# Altium footprint library CAN_optical_PcbLib.PcbLib: 20 footprints (part 1 of 2)
Each footprint in its own frame and in the unit in brackets; x right, y up, seen from the top. Pads: shape width x height; smd on the part's side, far side on the other; paste and mask are expansions set on the pad; w line width, h text height; cw(c..) or ccw(c..) is an arc to the next point about the centre after c.
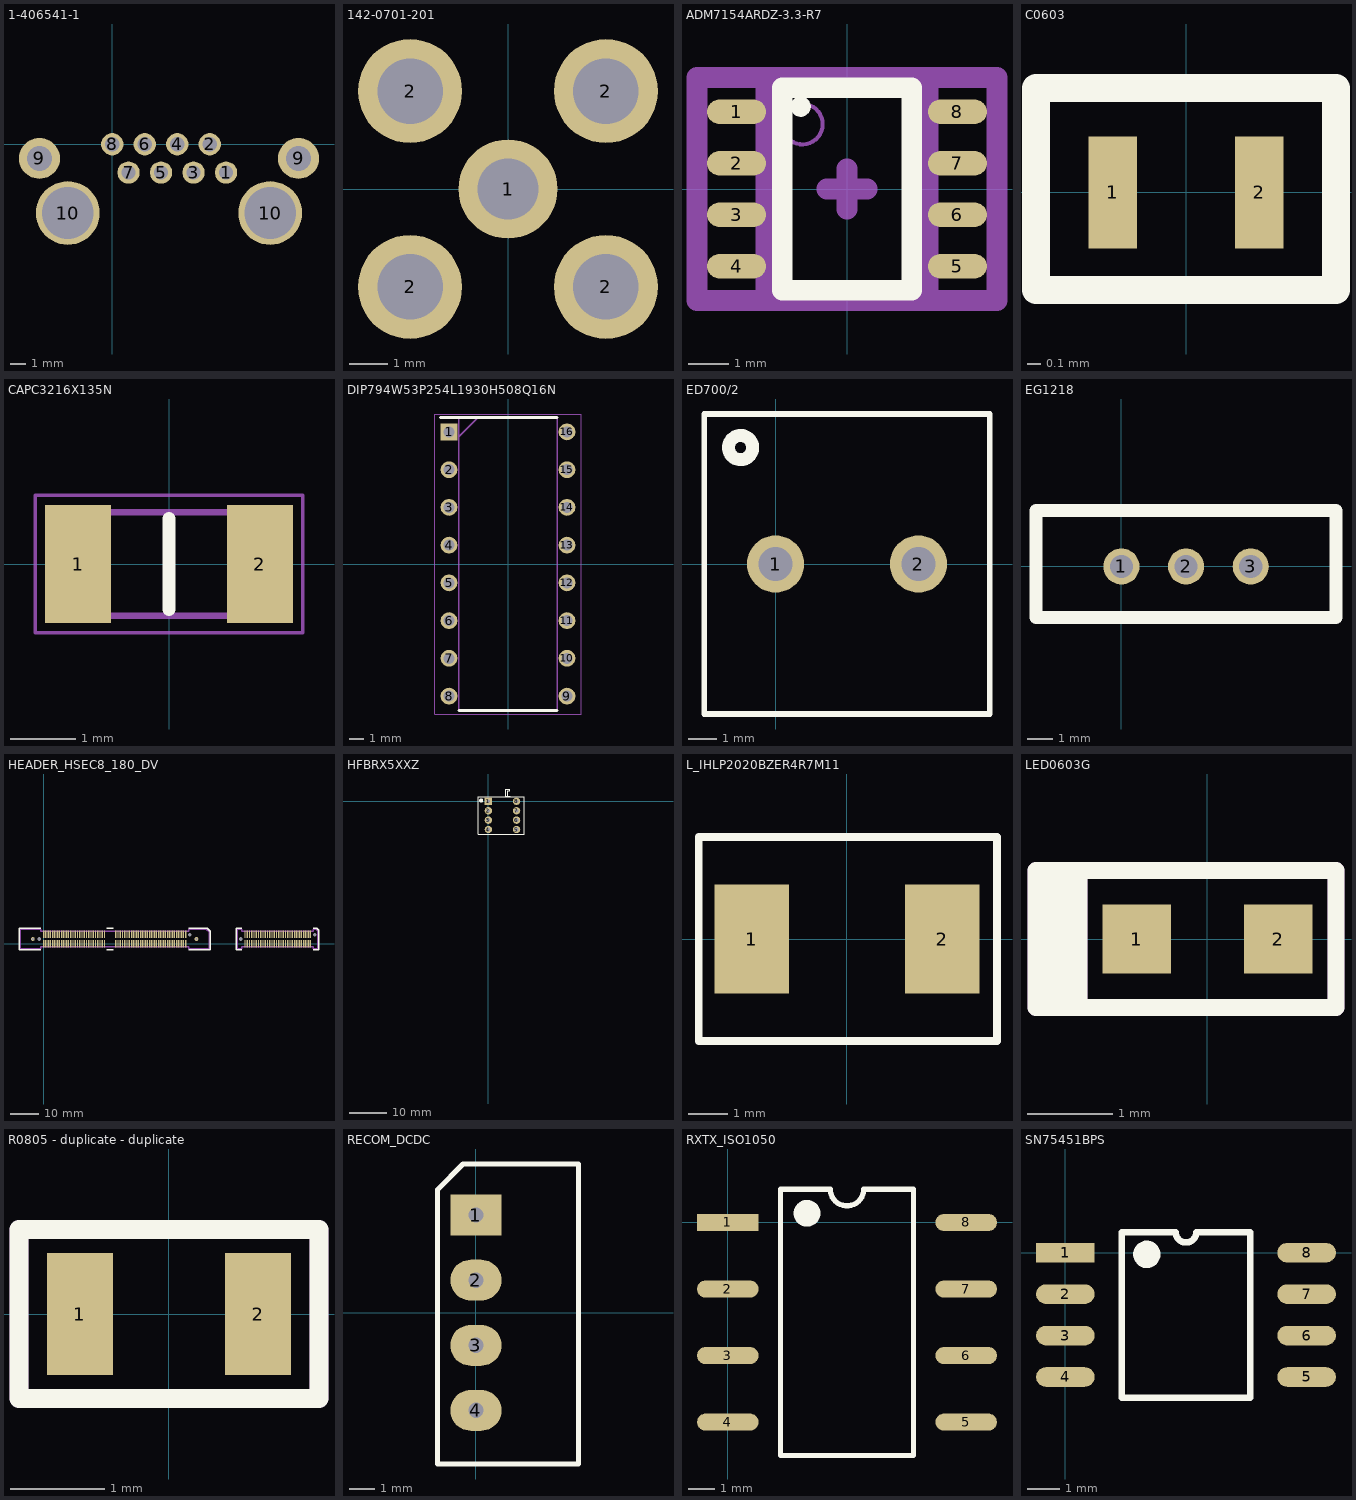
[diagram p0: the footprints below, top view; thin cyan lines are the x and y axes]

## 1-406541-1 [mm] "Jack Modular Connector 8p8c (RJ45, Ethernet) 90° Angle (Right) Shielded, EMI Finger Cat5"
height 13.97
pads (12):
  round 1.4 hole 0.89: 1(7.14,-1.78) 2(6.12,0) 3(5.1,-1.78) 4(4.08,0) 5(3.06,-1.78) 6(2.04,0) 7(1.02,-1.78) 8(0,0)
  round 2.57 hole 1.57: 9(-4.57,-0.89) 9(11.69,-0.89)
  round 4 hole 3.25: 10(-2.79,-4.32) 10(9.91,-4.32)

## 142-0701-201 [mm]
pads (5):
  round 2.57 hole 1.57: 1(0,0)
  round 2.7 hole 1.7: 2(-2.54,-2.54) 2(-2.54,2.54) 2(2.54,-2.54) 2(2.54,2.54)

## ADM7154ARDZ-3.3-R7 [mm]
pads (8):
  oval 1.45x0.6 smd: 1(-2.725,1.905) 2(-2.725,0.635) 3(-2.725,-0.635) 4(-2.725,-1.905) 5(2.725,-1.905) 6(2.725,-0.635) 7(2.725,0.635) 8(2.725,1.905)
Top Overlay:
  circle w0.25: c-1.143,2.032 r0.125
  lines w0.508: -1.6,-2.5 1.6,-2.5 1.6,2.5 -1.6,2.5 -1.6,-2.5
Mechanical 13:
  circle w0.1: c-1.1,1.6 r0.5
  lines w0.508: -2,-2.5 2,-2.5 2,2.5 -2,2.5 -2,-2.5
Mechanical 15:
  lines w0.508: -0.5,0 0.5,0 ; 0,-0.5 0,0.5 ; -3.7,-2.75 3.7,-2.75 3.7,2.75 -3.7,2.75 -3.7,-2.75
3D body: height 0.8, standoff 0.1, extent -2,-2.5 2,2.5

## C0603 [mm]
pads (2):
  rect 0.35x0.8 smd: 1(-0.525,0) 2(0.525,0)
Top Overlay:
  lines w0.2: -1.075,-0.7 1.075,-0.7 1.075,0.75 -1.075,0.75 -1.075,-0.7

## CAPC3216X135N [mm]
pads (2):
  rect 1.02x1.82 smd: 1(-1.4,0) 2(1.4,0)
Top Overlay:
  lines w0.2: 0,-0.7 0,0.7
Mechanical 13:
  lines w0.1: -1.6,-0.8 1.6,-0.8 1.6,0.8 -1.6,0.8 -1.6,-0.8
Mechanical 15:
  lines w0.05: -2.06,-1.06 2.06,-1.06 2.06,1.06 -2.06,1.06 -2.06,-1.06
3D body "C1206C104J5JACTU.stp": height 1.35, standoff 0, extent -1.6,-0.8 1.6,0.8

## DIP794W53P254L1930H508Q16N [mm]
pads (16):
  rect 1.13x1.13 hole 0.73: 1(-3.97,8.89)
  round 1.13 hole 0.73: 2(-3.97,6.35) 3(-3.97,3.81) 4(-3.97,1.27) 5(-3.97,-1.27) 6(-3.97,-3.81) 7(-3.97,-6.35) 8(-3.97,-8.89) 9(3.97,-8.89) 10(3.97,-6.35) 11(3.97,-3.81) 12(3.97,-1.27) 13(3.97,1.27) 14(3.97,3.81) 15(3.97,6.35) 16(3.97,8.89)
Top Overlay:
  lines w0.2: -4.535,9.845 3.3,9.845 ; -3.3,-9.845 3.3,-9.845
Mechanical 13:
  lines w0.1: -3.3,8.575 -2.03,9.845 ; -3.3,-9.845 3.3,-9.845 3.3,9.845 -3.3,9.845 -3.3,-9.845
Mechanical 15:
  lines w0.05: -4.945,-10.095 4.945,-10.095 4.945,10.095 -4.945,10.095 -4.945,-10.095
3D body "CD40109BE.stp": height 5.08, standoff -3.5, extent -4.102,-9.653 4.102,9.653

## ED700/2 [mm]
pads (2):
  round 2 hole 1.2: 1(0,0) 2(5,0)
Top Overlay:
  circle w0.454: c-1.225,4.075 r0.424
  lines w0.2: -2.5,-5.25 7.5,-5.25 7.5,5.25 -2.5,5.25 -2.5,-5.25

## EG1218 [mm] "SWITCH SLIDE SPDT 200MA 30V"
pads (3):
  round 1.4 hole 0.9: 1(0,0) 2(2.5,0) 3(5,0)
Top Overlay:
  lines w0.508: -3.302,-1.968 -3.302,2.159 8.298,2.159 8.298,-1.968 -3.302,-1.968

## HEADER_HSEC8_180_DV [mm]
pads (186):
  rect 0.5x2.724 smd mask+0.076: 1(0,0) 2(0,3.4) 3(0.8,0) 4(0.8,3.4) 5(1.6,0) 6(1.6,3.4) 7(2.4,0) 8(2.4,3.4) 9(3.2,0) 10(3.2,3.4) 11(4,0) 12(4,3.4) 13(4.8,0) 14(4.8,3.4) 15(5.6,0) 16(5.6,3.4) 17(6.4,0) 18(6.4,3.4) 19(7.2,0) 20(7.2,3.4) 21(8,0) 22(8,3.4) 23(8.8,0) 24(8.8,3.4) 25(9.6,0) 26(9.6,3.4) 27(10.4,0) 28(10.4,3.4) 29(11.2,0) 30(11.2,3.4) 31(12,0) 32(12,3.4) 33(12.8,0) 34(12.8,3.4) 35(13.6,0) 36(13.6,3.4) 37(14.4,0) 38(14.4,3.4) 39(15.2,0) 40(15.2,3.4) 41(16,0) 42(16,3.4) 43(16.8,0) 44(16.8,3.4) 45(17.6,0) 46(17.6,3.4) 47(18.4,0) 48(18.4,3.4) 49(19.2,0) 50(19.2,3.4) 51(20,0) 52(20,3.4) 53(20.8,0) 54(20.8,3.4) 55(21.6,0) 56(21.6,3.4) 57(25.6,0) 58(25.6,3.4) 59(26.4,0) 60(26.4,3.4) 61(27.2,0) 62(27.2,3.4) 63(28,0) 64(28,3.4) 65(28.8,0) 66(28.8,3.4) 67(29.6,0) 68(29.6,3.4) 69(30.4,0) 70(30.4,3.4) 71(31.2,0) 72(31.2,3.4) 73(32,0) 74(32,3.4) 75(32.8,0) 76(32.8,3.4) 77(33.6,0) 78(33.6,3.4) 79(34.4,0) 80(34.4,3.4) 81(35.2,0) 82(35.2,3.4) 83(36,0) 84(36,3.4) 85(36.8,0) 86(36.8,3.4) 87(37.6,0) 88(37.6,3.4) 89(38.4,0) 90(38.4,3.4) 91(39.2,0) 92(39.2,3.4) 93(40,0) 94(40,3.4) 95(40.8,0) 96(40.8,3.4) 97(41.6,0) 98(41.6,3.4) 99(42.4,0) 100(42.4,3.4) 101(43.2,0) 102(43.2,3.4) 103(44,0) 104(44,3.4) 105(44.8,0) 106(44.8,3.4) 107(45.6,0) 108(45.6,3.4) 109(46.4,0) 110(46.4,3.4) 111(47.2,0) 112(47.2,3.4) 113(48,0) 114(48,3.4) 115(48.8,0) 116(48.8,3.4) 117(49.6,0) 118(49.6,3.4) 119(50.4,0) 120(50.4,3.4) 121(71.468,0) 122(71.468,3.4) 123(72.268,0) 124(72.268,3.4) 125(73.068,0) 126(73.068,3.4) 127(73.868,0) 128(73.868,3.4) 129(74.668,0) 130(74.668,3.4) 131(75.468,0) 132(75.468,3.4) 133(76.268,0) 134(76.268,3.4) 135(77.068,0) 136(77.068,3.4) 137(77.868,0) 138(77.868,3.4) 139(78.668,0) 140(78.668,3.4) 141(79.468,0) 142(79.468,3.4) 143(80.268,0) 144(80.268,3.4) 145(81.068,0) 146(81.068,3.4) 147(81.868,0) 148(81.868,3.4) 149(82.668,0) 150(82.668,3.4) 151(83.468,0) 152(83.468,3.4) 153(84.268,0) 154(84.268,3.4) 155(85.068,0) 156(85.068,3.4) 157(85.868,0) 158(85.868,3.4) 159(86.668,0) 160(86.668,3.4) 161(87.468,0) 162(87.468,3.4) 163(88.268,0) 164(88.268,3.4) 165(89.068,0) 166(89.068,3.4) 167(89.868,0) 168(89.868,3.4) 169(90.668,0) 170(90.668,3.4) 171(91.468,0) 172(91.468,3.4) 173(92.268,0) 174(92.268,3.4) 175(93.068,0) 176(93.068,3.4) 177(93.868,0) 178(93.868,3.4) 179(94.668,0) 180(94.668,3.4)
  round 0.025 hole 1.27 unplated mask+0.876: 181(-1.5,1.7) 182(51.9,3.2) 183(69.968,1.7) 184(96.168,3.2)
  round 1.348 hole 0.84: 185(-3.85,1.7) 186(54.25,1.7)
Top Overlay:
  lines w0.508: -1.1,-2.181 -8.756,-2.181 -8.756,5.581 -1.1,5.581 ; 22.481,-2.181 24.719,-2.181 ; 22.481,5.581 24.719,5.581 ; 51.5,-2.181 59.156,-2.181 59.156,4.438 58.013,5.581 51.5,5.581 ; 70.368,-2.181 68.387,-2.181 68.387,5.581 70.368,5.581 ; 95.733,-2.181 97.749,-2.181 97.749,4.819 96.987,5.581 95.758,5.581
Mechanical 1:
  lines w0.508: -8.375,-1.8 -1.1,-1.8 -1.1,-1.1 51.5,-1.1 51.5,-1.8 58.775,-1.8 58.775,4.225 57.8,5.2 51.5,5.2 51.5,4.5 -1.1,4.5 -1.1,5.2 -8.375,5.2 -8.375,-1.8 ; 68.768,-1.768 68.8,-1.8 70.368,-1.8 70.368,-1.1 95.768,-1.1 95.768,-1.8 97.368,-1.8 97.368,4.632 96.8,5.2 95.768,5.2 95.768,4.5 70.368,4.5 70.368,5.2 68.768,5.2 68.768,-1.768

## HFBRX5XXZ [mm]
pads (8):
  rect 2x2 hole 1.02: 1(0,0)
  round 2 hole 1.02: 2(0,-2.54) 3(0,-5.08) 4(0,-7.62) 5(7.62,-7.62) 6(7.625,-5.075) 7(7.625,-2.55) 8(7.62,0)
Top Overlay:
  circle w0.54: c-1.95,0.225 r0.3
  lines w0.2: 2.725,1.27 9.675,1.27 9.675,-2.46 9.675,-3.86 9.675,-6.211 9.675,-7.164 9.675,-8.89 -2.75,-8.89 -2.75,-5.35 -2.75,-2.27 -2.75,1.27 3.175,1.27 ; 5.175,1.325 5.175,2.775 5.15,2.8 5.8,2.8 5.825,2.825 5.825,3.325 4.675,3.325 4.675,2.275 4.675,1.27 cw(c5.31,-38.23) 5.945,1.27

## L_IHLP2020BZER4R7M11 [mm]
pads (2):
  rect 1.9x2.79 smd: 1(-2.425,0) 2(2.426,0)
Top Overlay:
  lines w0.2: -3.775,-2.6 -3.775,0.655 -3.775,2.6 3.825,2.6 3.825,-2.6 -3.775,-2.6

## LED0603G [mm]
pads (2):
  rect 0.8x0.8 smd: 1(-0.825,0) 2(0.825,0)
Top Overlay:
  rectangle: -2,-0.8 -1.4,0.8
  lines w0.2: -2,-0.8 1.5,-0.8 1.5,-0.2 1.5,0.6 1.5,0.8 -2,0.8 -2,-0.8
Mechanical 29:
  rectangle: -2,-0.8 -1.4,0.8
  lines w0.2: -2,-0.8 -2,0.8 1.5,0.8 1.5,0.6 1.5,-0.2 1.5,-0.8 -2,-0.8
  text "'.Designator'" at -1.1,-0.4 h0.7
3D body "User Library-SMD LED 0603.step": height 0.4, standoff 0.01, extent -0.8,-0.4 0.8,0.4

## R0805 - duplicate - duplicate [mm]
pads (2):
  rect 0.7x1.3 smd: 1(-0.95,0) 2(0.95,0)
Top Overlay:
  lines w0.2: -1.6,-0.9 -1.6,-0.25 -1.6,0.9 1.6,0.9 1.6,-0.9 0.637,-0.9 -1.6,-0.9
Mechanical 29:
  lines w0.2: -1.6,-0.9 0.637,-0.9 1.6,-0.9 1.6,0.9 -1.6,0.9 -1.6,-0.25 -1.6,-0.9
  text "'.Designator'" at -1.3,-0.4 h0.7
3D body: height 0.25, standoff 0, extent -0.2,-0.2 -0.2,-0.2
3D body: height 0.25, standoff 0, extent -0.7,0.9 -0.7,0.9
3D body: height 0.25, standoff 0, extent -1,1.2 -1,1.2
3D body "User Library-CR2012-0805.step": height 0.61, standoff 0.01, extent -1,-0.625 1,0.625

## RECOM_DCDC [mm]
pads (4):
  rect 2x1.6 hole 0.6: 1(0,3.81)
  oval 2x1.6 hole 0.6: 2(0,1.27) 3(0,-1.27) 4(0,-3.81)
Top Overlay:
  lines w0.2: -0.4,5.8 -0.5,5.8 ; -0.5,5.8 4,5.8 4,-5.9 2.315,-5.9 0.185,-5.9 -0.779,-5.9 -1.5,-5.9 -1.5,4.8 -0.5,5.8

## RXTX_ISO1050 [mm]
pads (8):
  rect 2.35x0.65 smd: 1(0,0)
  oval 2.35x0.65 smd: 2(0,-2.54) 3(0,-5.08) 4(0,-7.62) 5(9.1,-7.62) 6(9.1,-5.08) 7(9.1,-2.54) 8(9.1,0)
Top Overlay:
  circle w0.5: c3.025,0.35 r0.261
  lines w0.2: 2.01,-8.89 7.09,-8.89 7.09,1.27 5.185,1.27 cw(c4.55,1.27) 3.915,1.27 2.01,1.27 2.01,-8.89

## SN75451BPS [mm]
pads (8):
  rect 1.8x0.6 smd: 1(0,0)
  oval 1.8x0.6 smd: 2(0,-1.27) 3(0,-2.54) 4(0,-3.81) 5(7.4,-3.81) 6(7.4,-2.54) 7(7.4,-1.27) 8(7.4,0)
Top Overlay:
  circle w0.44: c2.5,-0.05 r0.2
  lines w0.2: 1.735,-4.445 5.665,-4.445 5.665,0.635 4.018,0.635 cw(c3.7,0.635) 3.383,0.635 1.735,0.635 1.735,-4.445